# Altium schematic symbol library DISP,7SEG,RED,CA,SA39-11EWA.SchLib: 1 symbol
Pins are listed as number, name and electrical type; pins without a type are passive.

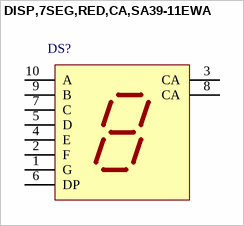
[diagram p0: symbol DISP,7SEG,RED,CA,SA39-11EWA]

## DISP,7SEG,RED,CA,SA39-11EWA
designator DS?
pins: 1 G, 2 F, 3 CA, 4 E, 5 D, 6 DP, 7 C, 8 CA, 9 B, 10 A